# EAGLE library part XH8 (library lib_paul)
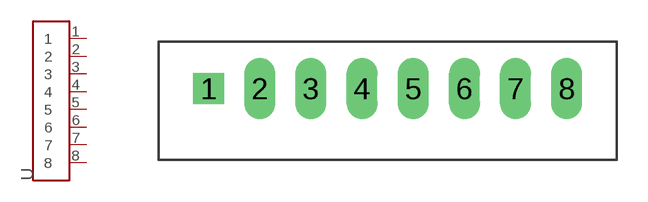
[diagram p4: symbol with the pads of CON8-2.5; footprint CON8-2.5]

Designator prefix -

## XH8  [CON8-2.5]
1  1
2  2
3  3
4  4
5  5
6  6
7  7
8  8

## Footprint CON8-2.5 (pad centres in mm)
drill 1 square: 1 -8.75,0
drill 1 long: 2 -6.25,0; 3 -3.75,0; 4 -1.25,0; 5 1.25,0; 6 3.75,0; 7 6.25,0; 8 8.75,0